# Altium schematic symbol library RELAYS.SchLib: 4 symbols
Pins are listed as number, name and electrical type; pins without a type are passive.

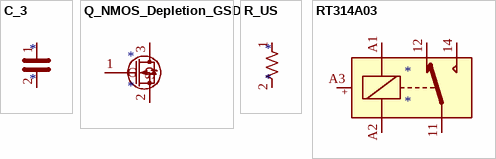
[diagram p0: symbols C_3 to RT314A03]

## C_3
designator *
pins: 1, 2

## Q_NMOS_Depletion_GSD
designator *
pins: 1 G, 2 S, 3 D

## R_US
designator *
pins: 1, 2

## RT314A03
designator *
pins: 11, 12, 14, A1, A2, A3
text: +